# Altium footprint library indp162152x110n.PcbLib: 1 footprints
Each footprint in its own frame and in the unit in brackets; x right, y up, seen from the top. Pads: shape width x height; smd on the part's side, far side on the other; paste and mask are expansions set on the pad; w line width, h text height; cw(c..) or ccw(c..) is an arc to the next point about the centre after c.
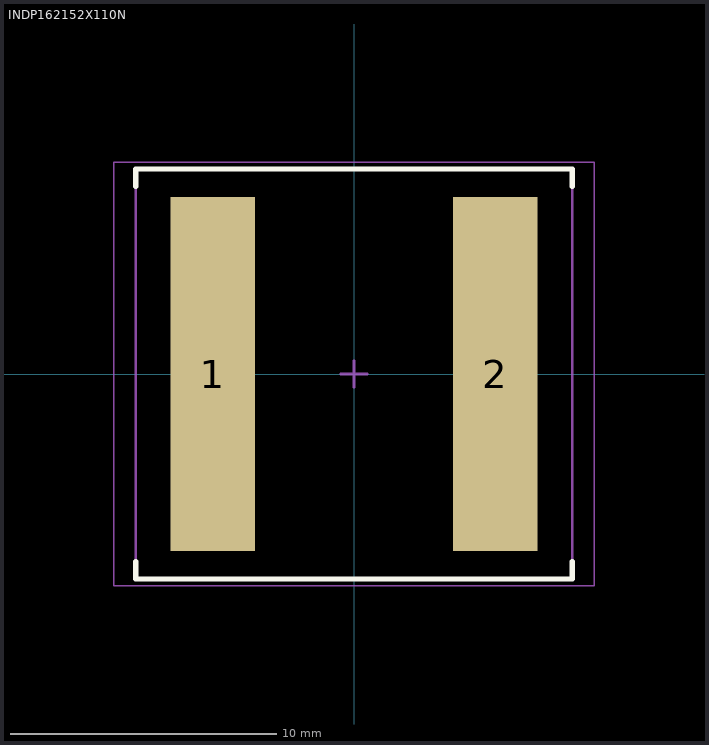
[diagram p0: the footprint, top view; thin cyan lines are the x and y axes]

## INDP162152X110N [mm] "Precision Wire Wound Inductor, 2-Leads, Body 16,20x15,20mm, IPC Medium Density"
height 11
pads (2):
  rect 3.18x13.3 smd: 1(-5.3,0) 2(5.3,0)
Top Overlay:
  lines w0.2: -8.2,-7.05 -8.2,-7.7 8.2,-7.7 8.2,-7.05 ; -8.2,7.05 -8.2,7.7 8.2,7.7 8.2,7.05
Mechanical 7:
  text ".Comment" at 1.1,8.5 h1.2
Mechanical 9 (Mech9):
  text ".Designator" at -0.3,8.5 h1.2
Top Component Outline:
  lines w0.1: -8.2,-7.7 -8.2,7.7 8.2,7.7 8.2,-7.7 -8.2,-7.7
Top Courtyard:
  lines w0.05: -9.025,-7.95 -9.025,7.95 9.025,7.95 9.025,-7.95 -9.025,-7.95
  lines w0.1: -0.5,0 0.5,0 ; 0,-0.5 0,0.5
3D body: height 11, standoff 0, extent -8.2,-7.7 8.2,7.7